# Altium footprint library Fuse 2A.PcbLib: 3 footprints
Each footprint in its own frame and in the unit in brackets; x right, y up, seen from the top. Pads: shape width x height; smd on the part's side, far side on the other; paste and mask are expansions set on the pad; w line width, h text height; cw(c..) or ccw(c..) is an arc to the next point about the centre after c.
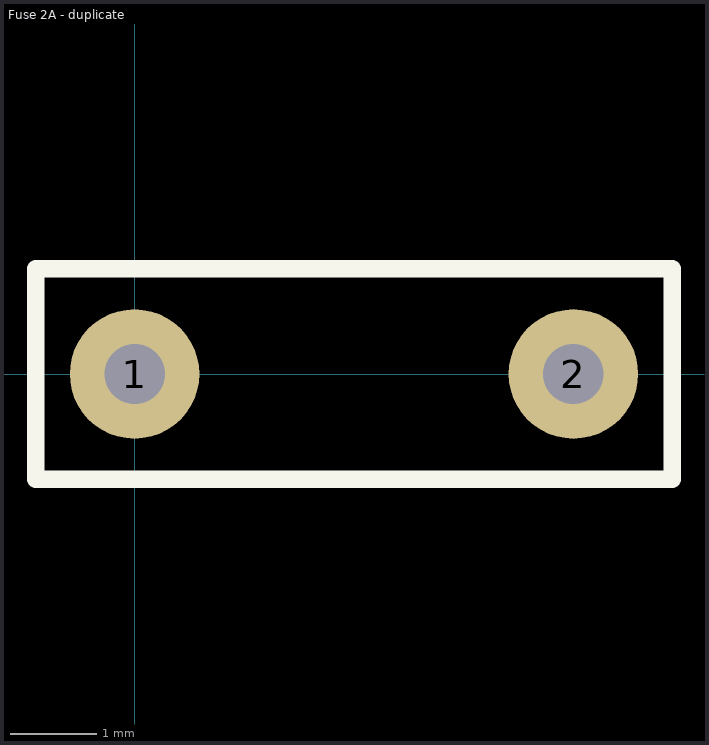
[diagram p0: the footprints below, top view; thin cyan lines are the x and y axes]

## Fuse 2A [mm]

## Fuse 2A - duplicate [mm]
pads (2):
  round 1.5 hole 0.7 paste+0: 1(0,0)
  round 1.5 hole 0.7: 2(5.08,0)
Top Overlay:
  lines w0.2: -1.143,-1.219 6.223,-1.219 6.223,1.219 -1.143,1.219 -1.143,-1.219
3D body: height 16, standoff -2.22, extent -1.109,-0.825 6.291,0.876

## PCBComponent_1 [mm]